# EAGLE library part HV5530 (library Parts)
HV5530 32-Channel, Serial to Parallel Converter w/ Open Drain Outputs, 300V Information <https://www.microchip.com/wwwproducts/en/HV5530>
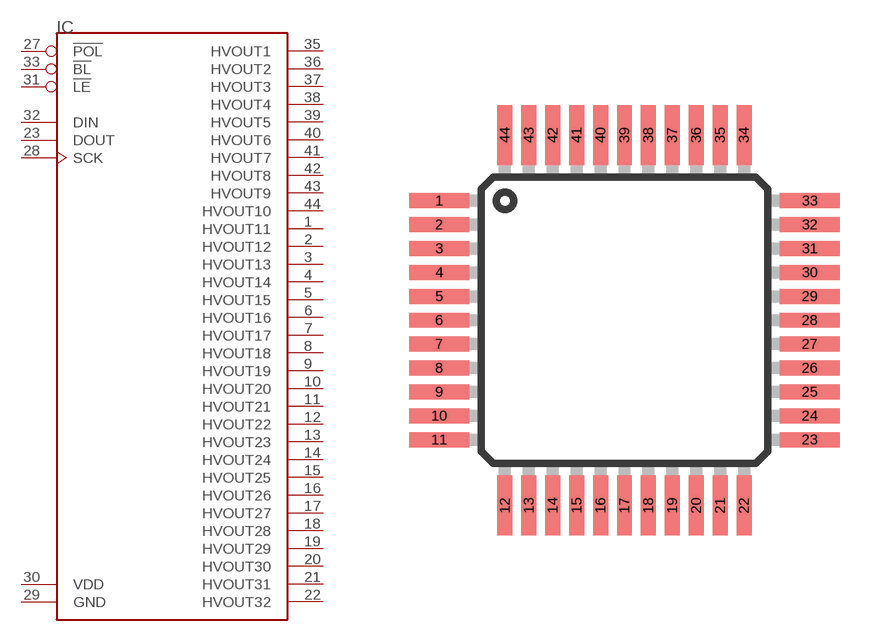
[diagram p0: symbol with the pads of PQFP44; footprint PQFP44]

Designator prefix IC

## HV5530PQFP-44 (MOUER: 689-HV5530PG-G)  [PQFP44]
1  HVOUT11
2  HVOUT12
3  HVOUT13
4  HVOUT14
5  HVOUT15
6  HVOUT16
7  HVOUT17
8  HVOUT18
9  HVOUT19
10  HVOUT20
11  HVOUT21
12  HVOUT22
13  HVOUT23
14  HVOUT24
15  HVOUT25
16  HVOUT26
17  HVOUT27
18  HVOUT28
19  HVOUT29
20  HVOUT30
21  HVOUT31
22  HVOUT32
23  DOUT
27  !POL
28  SCK
29  GND  pwr
30  VDD  pwr
31  !LE
32  DIN
33  !BL
35  HVOUT1
36  HVOUT2
37  HVOUT3
38  HVOUT4
39  HVOUT5
40  HVOUT6
41  HVOUT7
42  HVOUT8
43  HVOUT9
44  HVOUT10

## Footprint PQFP44 (pad centres in mm)
Plastic Quad Flat Package
smd 2 x 0.5: 1 -6.2,4; 2 -6.2,3.2; 3 -6.2,2.4; 4 -6.2,1.6; 5 -6.2,0.8; 6 -6.2,0; 7 -6.2,-0.8; 8 -6.2,-1.6; 9 -6.2,-2.4; 10 -6.2,-3.2; 11 -6.2,-4; 23 6.2,-4; 24 6.2,-3.2; 25 6.2,-2.4; 26 6.2,-1.6; 27 6.2,-0.8; 28 6.2,0; 29 6.2,0.8; 30 6.2,1.6; 31 6.2,2.4; 32 6.2,3.2; 33 6.2,4
smd 0.5 x 2: 12 -4,-6.2; 13 -3.2,-6.2; 14 -2.4,-6.2; 15 -1.6,-6.2; 16 -0.8,-6.2; 17 0,-6.2; 18 0.8,-6.2; 19 1.6,-6.2; 20 2.4,-6.2; 21 3.2,-6.2; 22 4,-6.2; 34 4,6.2; 35 3.2,6.2; 36 2.4,6.2; 37 1.6,6.2; 38 0.8,6.2; 39 0,6.2; 40 -0.8,6.2; 41 -1.6,6.2; 42 -2.4,6.2; 43 -3.2,6.2; 44 -4,6.2